# Altium schematic symbol library MCP3204-BI-SL.SchLib: 1 symbol
Pins are listed as number, name and electrical type; pins without a type are passive.

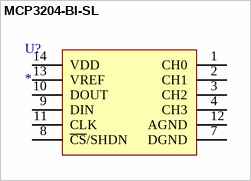
[diagram p0: symbol MCP3204-BI-SL]

## MCP3204-BI-SL
designator U?
Value: *
pins: 1 CH0, 2 CH1, 3 CH2, 4 CH3, 7 DGND, 8 ~{CS}/SHDN, 9 DIN, 10 DOUT, 11 CLK, 12 AGND, 13 VREF, 14 VDD